# Altium schematic symbol library STM32L4.SchLib: 2 symbols
Pins are listed as number, name and electrical type; pins without a type are passive.

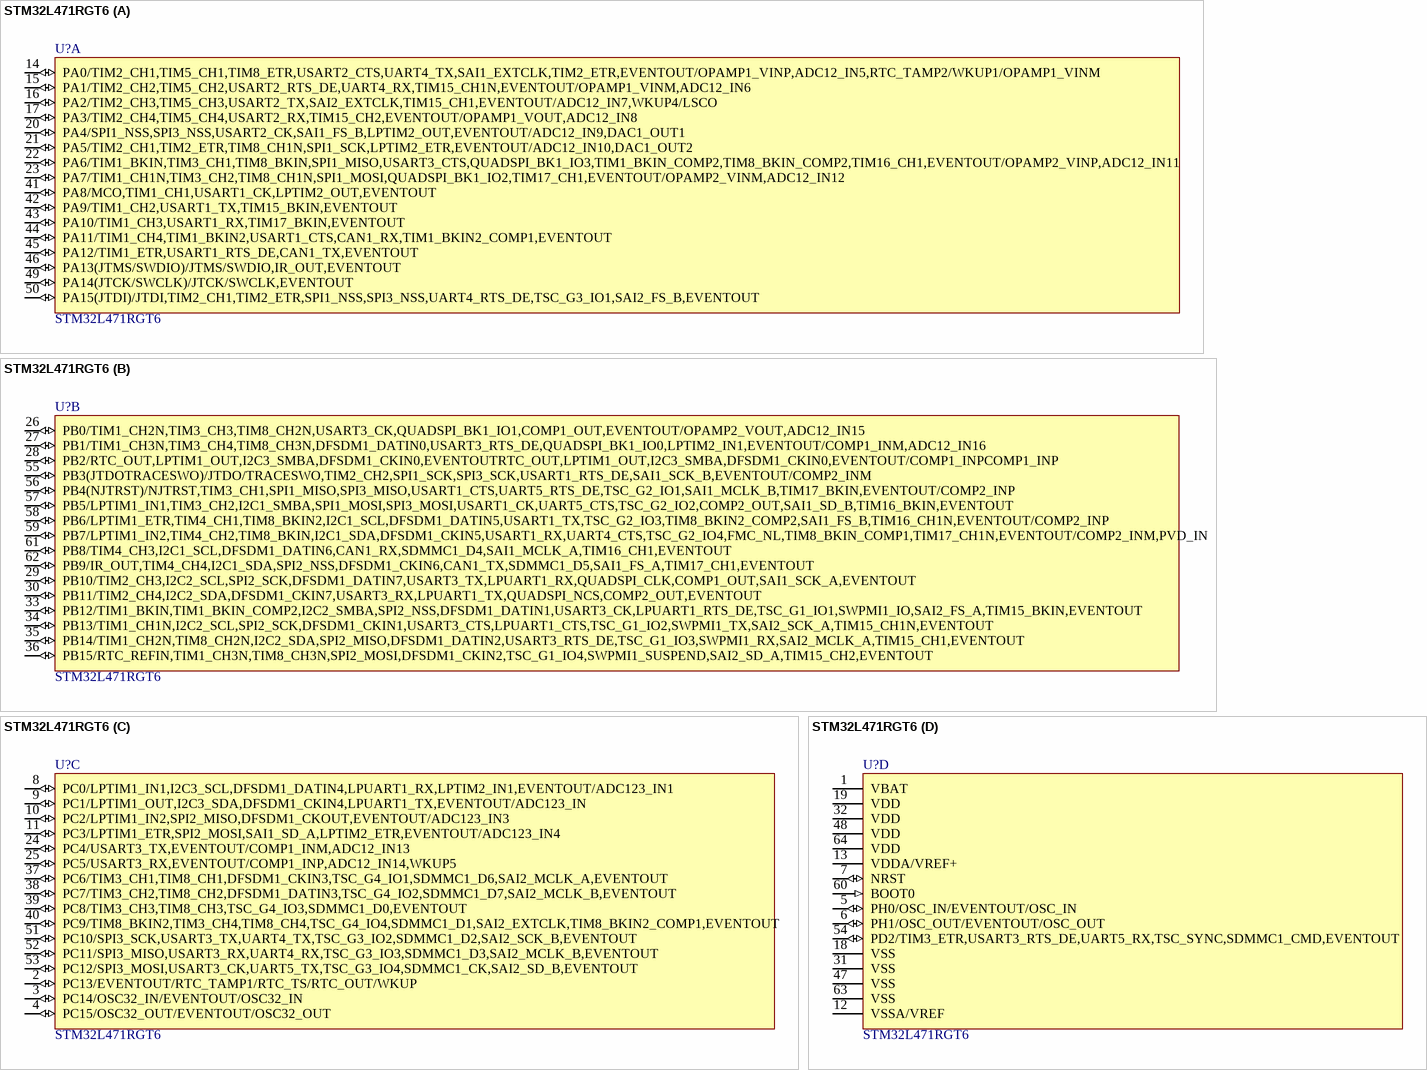
[diagram p0: symbol STM32L471RGT6]

## STM32L471RGT6
designator U?
16/32-BITS MICROS; Manufacturer: STMicroelectronics; Frequency: 80MHz; Interface: CAN,I2C,IrDA,LIN,MMC,SD,SPI,UART,USART; Number of I/Os: 51; Oscillator Type: Internal; Memory Type: FLASH; Memory Size: 1MB; Peripherals: Brown-out Detect/Reset,DMA,PWM,WDT; Core Architecture: ARM; Supplier 1: Digi-Key; Manufacturer Part Number: STM32L471RGT6; Stock 1: 1950; Pricing 1: 1=8.96, 10=8.09, 160=6.69813, 640=5.83266, 1120=5.08005 (USD); Case/Package: LQFP; Min Operating Temperature: -40°C; Max Operating Temperature: 85°C; Packaging: Tray; Value: STM32L471RGT6; Supplier Part Number 1: 497-16387-ND
footprint LQFP64-10x10 (TSQFP, 64-Leads, Body 10,00x10,00mm, Pitch 0,50mm, IPC Medium Density)
part A pins: 14 PA0/TIM2_CH1,TIM5_CH1,TIM8_ETR,USART2_CTS,UART4_TX,SAI1_EXTCLK,TIM2_ETR,EVENTOUT/OPAMP1_VINP,ADC12_IN5,RTC_TAMP2/WKUP1/OPAMP1_VINM (io), 15 PA1/TIM2_CH2,TIM5_CH2,USART2_RTS_DE,UART4_RX,TIM15_CH1N,EVENTOUT/OPAMP1_VINM,ADC12_IN6 (io), 16 PA2/TIM2_CH3,TIM5_CH3,USART2_TX,SAI2_EXTCLK,TIM15_CH1,EVENTOUT/ADC12_IN7,WKUP4/LSCO (io), 17 PA3/TIM2_CH4,TIM5_CH4,USART2_RX,TIM15_CH2,EVENTOUT/OPAMP1_VOUT,ADC12_IN8 (io), 20 PA4/SPI1_NSS,SPI3_NSS,USART2_CK,SAI1_FS_B,LPTIM2_OUT,EVENTOUT/ADC12_IN9,DAC1_OUT1 (io), 21 PA5/TIM2_CH1,TIM2_ETR,TIM8_CH1N,SPI1_SCK,LPTIM2_ETR,EVENTOUT/ADC12_IN10,DAC1_OUT2 (io), 22 PA6/TIM1_BKIN,TIM3_CH1,TIM8_BKIN,SPI1_MISO,USART3_CTS,QUADSPI_BK1_IO3,TIM1_BKIN_COMP2,TIM8_BKIN_COMP2,TIM16_CH1,EVENTOUT/OPAMP2_VINP,ADC12_IN11 (io), 23 PA7/TIM1_CH1N,TIM3_CH2,TIM8_CH1N,SPI1_MOSI,QUADSPI_BK1_IO2,TIM17_CH1,EVENTOUT/OPAMP2_VINM,ADC12_IN12 (io), 41 PA8/MCO,TIM1_CH1,USART1_CK,LPTIM2_OUT,EVENTOUT (io), 42 PA9/TIM1_CH2,USART1_TX,TIM15_BKIN,EVENTOUT (io), 43 PA10/TIM1_CH3,USART1_RX,TIM17_BKIN,EVENTOUT (io), 44 PA11/TIM1_CH4,TIM1_BKIN2,USART1_CTS,CAN1_RX,TIM1_BKIN2_COMP1,EVENTOUT (io), 45 PA12/TIM1_ETR,USART1_RTS_DE,CAN1_TX,EVENTOUT (io), 46 PA13(JTMS/SWDIO)/JTMS/SWDIO,IR_OUT,EVENTOUT (io), 49 PA14(JTCK/SWCLK)/JTCK/SWCLK,EVENTOUT (io), 50 PA15(JTDI)/JTDI,TIM2_CH1,TIM2_ETR,SPI1_NSS,SPI3_NSS,UART4_RTS_DE,TSC_G3_IO1,SAI2_FS_B,EVENTOUT (io)
part B pins: 26 PB0/TIM1_CH2N,TIM3_CH3,TIM8_CH2N,USART3_CK,QUADSPI_BK1_IO1,COMP1_OUT,EVENTOUT/OPAMP2_VOUT,ADC12_IN15 (io), 27 PB1/TIM1_CH3N,TIM3_CH4,TIM8_CH3N,DFSDM1_DATIN0,USART3_RTS_DE,QUADSPI_BK1_IO0,LPTIM2_IN1,EVENTOUT/COMP1_INM,ADC12_IN16 (io), 28 PB2/RTC_OUT,LPTIM1_OUT,I2C3_SMBA,DFSDM1_CKIN0,EVENTOUTRTC_OUT,LPTIM1_OUT,I2C3_SMBA,DFSDM1_CKIN0,EVENTOUT/COMP1_INPCOMP1_INP (io), 29 PB10/TIM2_CH3,I2C2_SCL,SPI2_SCK,DFSDM1_DATIN7,USART3_TX,LPUART1_RX,QUADSPI_CLK,COMP1_OUT,SAI1_SCK_A,EVENTOUT (io), 30 PB11/TIM2_CH4,I2C2_SDA,DFSDM1_CKIN7,USART3_RX,LPUART1_TX,QUADSPI_NCS,COMP2_OUT,EVENTOUT (io), 33 PB12/TIM1_BKIN,TIM1_BKIN_COMP2,I2C2_SMBA,SPI2_NSS,DFSDM1_DATIN1,USART3_CK,LPUART1_RTS_DE,TSC_G1_IO1,SWPMI1_IO,SAI2_FS_A,TIM15_BKIN,EVENTOUT (io), 34 PB13/TIM1_CH1N,I2C2_SCL,SPI2_SCK,DFSDM1_CKIN1,USART3_CTS,LPUART1_CTS,TSC_G1_IO2,SWPMI1_TX,SAI2_SCK_A,TIM15_CH1N,EVENTOUT (io), 35 PB14/TIM1_CH2N,TIM8_CH2N,I2C2_SDA,SPI2_MISO,DFSDM1_DATIN2,USART3_RTS_DE,TSC_G1_IO3,SWPMI1_RX,SAI2_MCLK_A,TIM15_CH1,EVENTOUT (io), 36 PB15/RTC_REFIN,TIM1_CH3N,TIM8_CH3N,SPI2_MOSI,DFSDM1_CKIN2,TSC_G1_IO4,SWPMI1_SUSPEND,SAI2_SD_A,TIM15_CH2,EVENTOUT (io), 55 PB3(JTDOTRACESWO)/JTDO/TRACESWO,TIM2_CH2,SPI1_SCK,SPI3_SCK,USART1_RTS_DE,SAI1_SCK_B,EVENTOUT/COMP2_INM (io), 56 PB4(NJTRST)/NJTRST,TIM3_CH1,SPI1_MISO,SPI3_MISO,USART1_CTS,UART5_RTS_DE,TSC_G2_IO1,SAI1_MCLK_B,TIM17_BKIN,EVENTOUT/COMP2_INP (io), 57 PB5/LPTIM1_IN1,TIM3_CH2,I2C1_SMBA,SPI1_MOSI,SPI3_MOSI,USART1_CK,UART5_CTS,TSC_G2_IO2,COMP2_OUT,SAI1_SD_B,TIM16_BKIN,EVENTOUT (io), 58 PB6/LPTIM1_ETR,TIM4_CH1,TIM8_BKIN2,I2C1_SCL,DFSDM1_DATIN5,USART1_TX,TSC_G2_IO3,TIM8_BKIN2_COMP2,SAI1_FS_B,TIM16_CH1N,EVENTOUT/COMP2_INP (io), 59 PB7/LPTIM1_IN2,TIM4_CH2,TIM8_BKIN,I2C1_SDA,DFSDM1_CKIN5,USART1_RX,UART4_CTS,TSC_G2_IO4,FMC_NL,TIM8_BKIN_COMP1,TIM17_CH1N,EVENTOUT/COMP2_INM,PVD_IN (io), 61 PB8/TIM4_CH3,I2C1_SCL,DFSDM1_DATIN6,CAN1_RX,SDMMC1_D4,SAI1_MCLK_A,TIM16_CH1,EVENTOUT (io), 62 PB9/IR_OUT,TIM4_CH4,I2C1_SDA,SPI2_NSS,DFSDM1_CKIN6,CAN1_TX,SDMMC1_D5,SAI1_FS_A,TIM17_CH1,EVENTOUT (io)
part C pins: 2 PC13/EVENTOUT/RTC_TAMP1/RTC_TS/RTC_OUT/WKUP (io), 3 PC14/OSC32_IN/EVENTOUT/OSC32_IN (io), 4 PC15/OSC32_OUT/EVENTOUT/OSC32_OUT (io), 8 PC0/LPTIM1_IN1,I2C3_SCL,DFSDM1_DATIN4,LPUART1_RX,LPTIM2_IN1,EVENTOUT/ADC123_IN1 (io), 9 PC1/LPTIM1_OUT,I2C3_SDA,DFSDM1_CKIN4,LPUART1_TX,EVENTOUT/ADC123_IN (io), 10 PC2/LPTIM1_IN2,SPI2_MISO,DFSDM1_CKOUT,EVENTOUT/ADC123_IN3 (io), 11 PC3/LPTIM1_ETR,SPI2_MOSI,SAI1_SD_A,LPTIM2_ETR,EVENTOUT/ADC123_IN4 (io), 24 PC4/USART3_TX,EVENTOUT/COMP1_INM,ADC12_IN13 (io), 25 PC5/USART3_RX,EVENTOUT/COMP1_INP,ADC12_IN14,WKUP5 (io), 37 PC6/TIM3_CH1,TIM8_CH1,DFSDM1_CKIN3,TSC_G4_IO1,SDMMC1_D6,SAI2_MCLK_A,EVENTOUT (io), 38 PC7/TIM3_CH2,TIM8_CH2,DFSDM1_DATIN3,TSC_G4_IO2,SDMMC1_D7,SAI2_MCLK_B,EVENTOUT (io), 39 PC8/TIM3_CH3,TIM8_CH3,TSC_G4_IO3,SDMMC1_D0,EVENTOUT (io), 40 PC9/TIM8_BKIN2,TIM3_CH4,TIM8_CH4,TSC_G4_IO4,SDMMC1_D1,SAI2_EXTCLK,TIM8_BKIN2_COMP1,EVENTOUT (io), 51 PC10/SPI3_SCK,USART3_TX,UART4_TX,TSC_G3_IO2,SDMMC1_D2,SAI2_SCK_B,EVENTOUT (io), 52 PC11/SPI3_MISO,USART3_RX,UART4_RX,TSC_G3_IO3,SDMMC1_D3,SAI2_MCLK_B,EVENTOUT (io), 53 PC12/SPI3_MOSI,USART3_CK,UART5_TX,TSC_G3_IO4,SDMMC1_CK,SAI2_SD_B,EVENTOUT (io)
part D pins: 1 VBAT (power), 5 PH0/OSC_IN/EVENTOUT/OSC_IN (io), 6 PH1/OSC_OUT/EVENTOUT/OSC_OUT (io), 7 NRST (io), 12 VSSA/VREF, 13 VDDA/VREF+, 18 VSS, 19 VDD, 31 VSS, 32 VDD, 47 VSS, 48 VDD, 54 PD2/TIM3_ETR,USART3_RTS_DE,UART5_RX,TSC_SYNC,SDMMC1_CMD,EVENTOUT (io), 60 BOOT0 (in), 63 VSS, 64 VDD

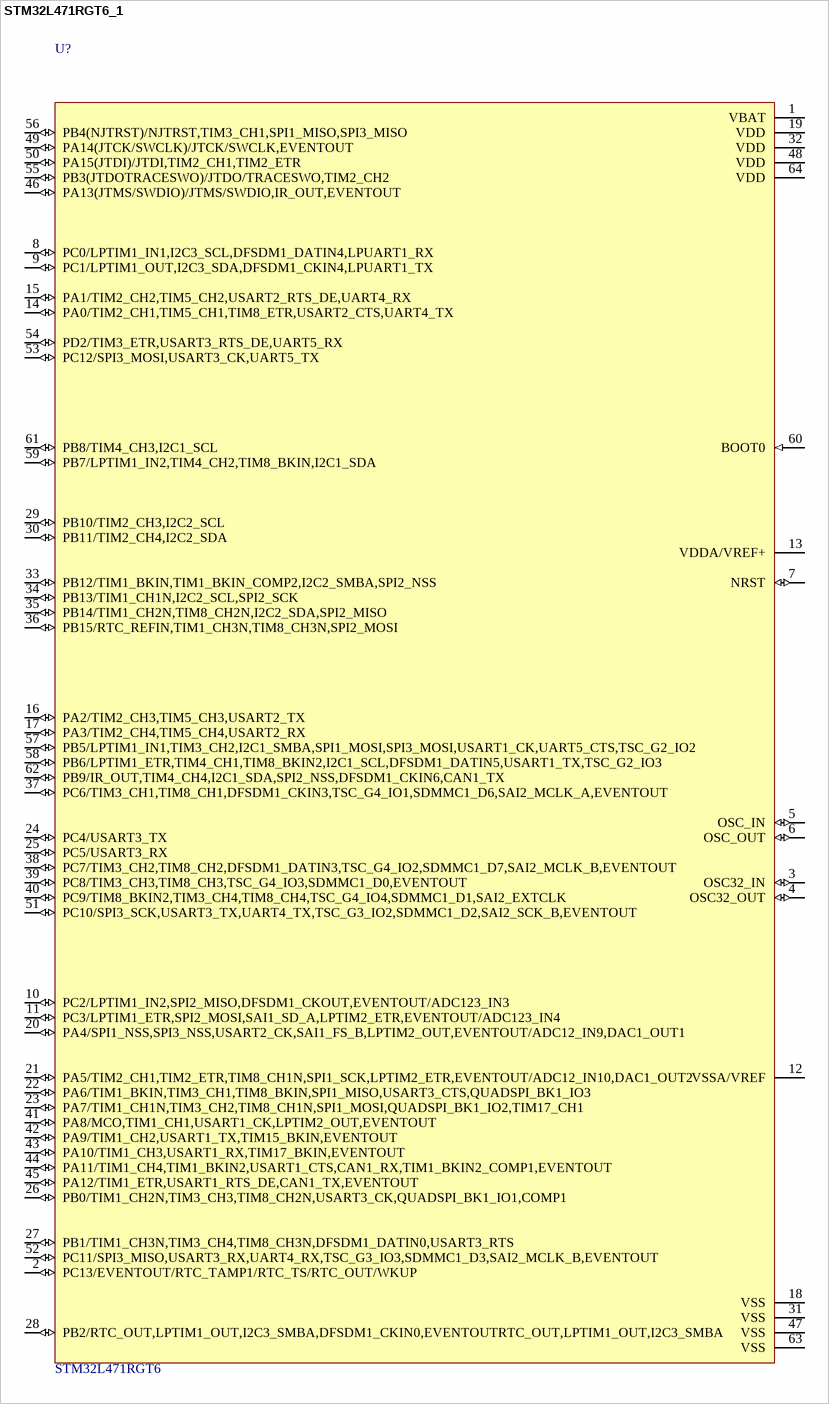
[diagram p1: symbol STM32L471RGT6_1]

## STM32L471RGT6_1
designator U?, comment STM32L471RGT6
16/32-BITS MICROS; Manufacturer: STMicroelectronics; Frequency: 80MHz; Interface: CAN,I2C,IrDA,LIN,MMC,SD,SPI,UART,USART; Number of I/Os: 51; Oscillator Type: Internal; Memory Type: FLASH; Memory Size: 1MB; Peripherals: Brown-out Detect/Reset,DMA,PWM,WDT; Core Architecture: ARM; Supplier 1: Digi-Key; Manufacturer Part Number: STM32L471RGT6; Stock 1: 1950; Pricing 1: 1=8.96, 10=8.09, 160=6.69813, 640=5.83266, 1120=5.08005 (USD); Case/Package: LQFP; Min Operating Temperature: -40°C; Max Operating Temperature: 85°C; Packaging: Tray; Value: STM32L471RGT6; Supplier Part Number 1: 497-16387-ND
footprint LQFP64-10x10 (TSQFP, 64-Leads, Body 10,00x10,00mm, Pitch 0,50mm, IPC Medium Density)
pins: 1 VBAT (power), 2 PC13/EVENTOUT/RTC_TAMP1/RTC_TS/RTC_OUT/WKUP (io), 3 OSC32_IN (io), 4 OSC32_OUT (io), 5 OSC_IN (io), 6 OSC_OUT (io), 7 NRST (io), 8 PC0/LPTIM1_IN1,I2C3_SCL,DFSDM1_DATIN4,LPUART1_RX (io), 9 PC1/LPTIM1_OUT,I2C3_SDA,DFSDM1_CKIN4,LPUART1_TX (io), 10 PC2/LPTIM1_IN2,SPI2_MISO,DFSDM1_CKOUT,EVENTOUT/ADC123_IN3 (io), 11 PC3/LPTIM1_ETR,SPI2_MOSI,SAI1_SD_A,LPTIM2_ETR,EVENTOUT/ADC123_IN4 (io), 12 VSSA/VREF, 13 VDDA/VREF+, 14 PA0/TIM2_CH1,TIM5_CH1,TIM8_ETR,USART2_CTS,UART4_TX (io), 15 PA1/TIM2_CH2,TIM5_CH2,USART2_RTS_DE,UART4_RX (io), 16 PA2/TIM2_CH3,TIM5_CH3,USART2_TX (io), 17 PA3/TIM2_CH4,TIM5_CH4,USART2_RX (io), 18 VSS, 19 VDD, 20 PA4/SPI1_NSS,SPI3_NSS,USART2_CK,SAI1_FS_B,LPTIM2_OUT,EVENTOUT/ADC12_IN9,DAC1_OUT1 (io), 21 PA5/TIM2_CH1,TIM2_ETR,TIM8_CH1N,SPI1_SCK,LPTIM2_ETR,EVENTOUT/ADC12_IN10,DAC1_OUT2 (io), 22 PA6/TIM1_BKIN,TIM3_CH1,TIM8_BKIN,SPI1_MISO,USART3_CTS,QUADSPI_BK1_IO3 (io), 23 PA7/TIM1_CH1N,TIM3_CH2,TIM8_CH1N,SPI1_MOSI,QUADSPI_BK1_IO2,TIM17_CH1 (io), 24 PC4/USART3_TX (io), 25 PC5/USART3_RX (io), 26 PB0/TIM1_CH2N,TIM3_CH3,TIM8_CH2N,USART3_CK,QUADSPI_BK1_IO1,COMP1 (io), 27 PB1/TIM1_CH3N,TIM3_CH4,TIM8_CH3N,DFSDM1_DATIN0,USART3_RTS (io), 28 PB2/RTC_OUT,LPTIM1_OUT,I2C3_SMBA,DFSDM1_CKIN0,EVENTOUTRTC_OUT,LPTIM1_OUT,I2C3_SMBA (io), 29 PB10/TIM2_CH3,I2C2_SCL (io), 30 PB11/TIM2_CH4,I2C2_SDA (io), 31 VSS, 32 VDD, 33 PB12/TIM1_BKIN,TIM1_BKIN_COMP2,I2C2_SMBA,SPI2_NSS (io), 34 PB13/TIM1_CH1N,I2C2_SCL,SPI2_SCK (io), 35 PB14/TIM1_CH2N,TIM8_CH2N,I2C2_SDA,SPI2_MISO (io), 36 PB15/RTC_REFIN,TIM1_CH3N,TIM8_CH3N,SPI2_MOSI (io), 37 PC6/TIM3_CH1,TIM8_CH1,DFSDM1_CKIN3,TSC_G4_IO1,SDMMC1_D6,SAI2_MCLK_A,EVENTOUT (io), 38 PC7/TIM3_CH2,TIM8_CH2,DFSDM1_DATIN3,TSC_G4_IO2,SDMMC1_D7,SAI2_MCLK_B,EVENTOUT (io), 39 PC8/TIM3_CH3,TIM8_CH3,TSC_G4_IO3,SDMMC1_D0,EVENTOUT (io), 40 PC9/TIM8_BKIN2,TIM3_CH4,TIM8_CH4,TSC_G4_IO4,SDMMC1_D1,SAI2_EXTCLK (io), 41 PA8/MCO,TIM1_CH1,USART1_CK,LPTIM2_OUT,EVENTOUT (io), 42 PA9/TIM1_CH2,USART1_TX,TIM15_BKIN,EVENTOUT (io), 43 PA10/TIM1_CH3,USART1_RX,TIM17_BKIN,EVENTOUT (io), 44 PA11/TIM1_CH4,TIM1_BKIN2,USART1_CTS,CAN1_RX,TIM1_BKIN2_COMP1,EVENTOUT (io), 45 PA12/TIM1_ETR,USART1_RTS_DE,CAN1_TX,EVENTOUT (io), 46 PA13(JTMS/SWDIO)/JTMS/SWDIO,IR_OUT,EVENTOUT (io), 47 VSS, 48 VDD, 49 PA14(JTCK/SWCLK)/JTCK/SWCLK,EVENTOUT (io), 50 PA15(JTDI)/JTDI,TIM2_CH1,TIM2_ETR (io), 51 PC10/SPI3_SCK,USART3_TX,UART4_TX,TSC_G3_IO2,SDMMC1_D2,SAI2_SCK_B,EVENTOUT (io), 52 PC11/SPI3_MISO,USART3_RX,UART4_RX,TSC_G3_IO3,SDMMC1_D3,SAI2_MCLK_B,EVENTOUT (io), 53 PC12/SPI3_MOSI,USART3_CK,UART5_TX (io), 54 PD2/TIM3_ETR,USART3_RTS_DE,UART5_RX (io), 55 PB3(JTDOTRACESWO)/JTDO/TRACESWO,TIM2_CH2 (io), 56 PB4(NJTRST)/NJTRST,TIM3_CH1,SPI1_MISO,SPI3_MISO (io), 57 PB5/LPTIM1_IN1,TIM3_CH2,I2C1_SMBA,SPI1_MOSI,SPI3_MOSI,USART1_CK,UART5_CTS,TSC_G2_IO2 (io), 58 PB6/LPTIM1_ETR,TIM4_CH1,TIM8_BKIN2,I2C1_SCL,DFSDM1_DATIN5,USART1_TX,TSC_G2_IO3 (io), 59 PB7/LPTIM1_IN2,TIM4_CH2,TIM8_BKIN,I2C1_SDA (io), 60 BOOT0 (in), 61 PB8/TIM4_CH3,I2C1_SCL (io), 62 PB9/IR_OUT,TIM4_CH4,I2C1_SDA,SPI2_NSS,DFSDM1_CKIN6,CAN1_TX (io), 63 VSS, 64 VDD